# Altium footprint library Senior-Design-Custom.PcbLib: 58 footprints (part 2 of 4)
Each footprint in its own frame and in the unit in brackets; x right, y up, seen from the top. Pads: shape width x height; smd on the part's side, far side on the other; paste and mask are expansions set on the pad; w line width, h text height; cw(c..) or ccw(c..) is an arc to the next point about the centre after c.
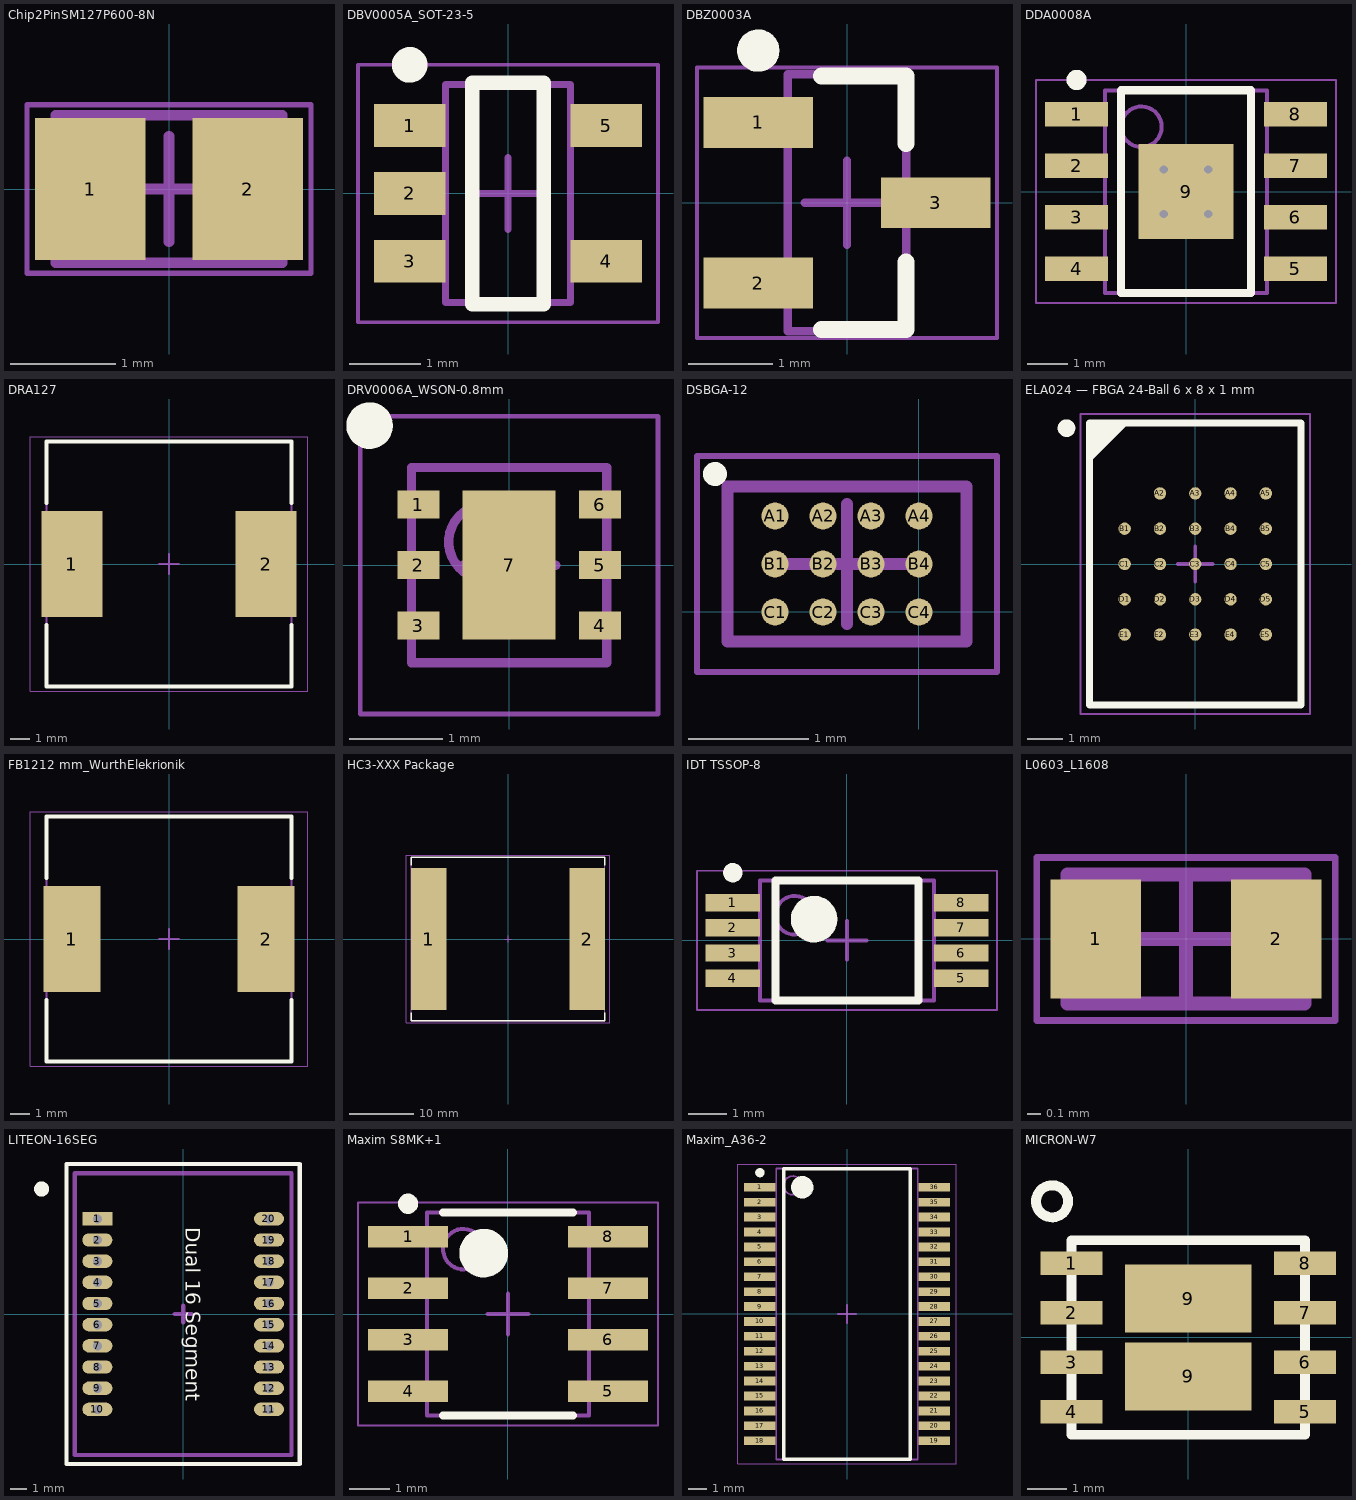
[diagram p1: the footprints below, top view; thin cyan lines are the x and y axes]

## Chip2PinSM127P600-8N [mm]
height 1.35
pads (2):
  rect 1.05x1.35 smd: 1(-0.75,0) 2(0.75,0)
Mechanical 13:
  lines w0.1: -1.075,-0.7 -1.075,0.7 1.075,0.7 1.075,-0.7 -1.075,-0.7
Mechanical 15:
  lines w0.05: -1.35,-0.8 -1.35,0.8 1.35,0.8 1.35,-0.8 -1.35,-0.8
  lines w0.1: -0.5,0 0.5,0 ; 0,-0.5 0,0.5
3D body "Chip2PinSM127P600-8N.step": height 1.35, standoff 0, extent -1.075,-0.7 1.075,0.7

## DBV0005A_SOT-23-5 [mm] "SOT23, 5-Leads, Body 2.90x2.80mm, Pitch 0.95mm, IPC Medium Density"
height 1.45
pads (5):
  rect 1x0.6 smd: 1(-1.375,0.95) 2(-1.375,0) 3(-1.375,-0.95) 4(1.375,-0.95) 5(1.375,0.95)
Top Overlay:
  circle w0.25: c-1.375,1.8 r0.125
  lines w0.2: -0.5,-1.55 -0.5,1.55 0.5,1.55 0.5,-1.55 -0.5,-1.55
Mechanical 13:
  lines w0.1: -0.875,-1.525 0.875,-1.525 0.875,1.525 -0.875,1.525 -0.875,-1.525
Mechanical 15:
  lines w0.05: -2.1,-1.8 2.1,-1.8 2.1,1.8 -2.1,1.8 -2.1,-1.8
  lines w0.1: -0.5,0 0.5,0 ; 0,-0.5 0,0.5
3D body: height 1.45, standoff 0, extent -0.875,-1.525 0.875,1.525

## DBZ0003A [mm] "Texas Instruments SOT-23 1.12mm max height 3 pin"
height 1.12
pads (3):
  rect 1.3x0.6 smd: 1(-1.05,0.95) 2(-1.05,-0.95) 3(1.05,0)
Top Overlay:
  circle w0.25: c-1.05,1.8 r0.125
  lines w0.2: -0.3,-1.5 0.7,-1.5 0.7,-0.7 ; -0.3,1.5 0.7,1.5 0.7,0.7
Mechanical 13:
  lines w0.1: -0.7,-1.52 -0.7,1.52 0.7,1.52 0.7,-1.52 -0.7,-1.52
Mechanical 15:
  lines w0.05: -1.775,-1.6 -1.775,1.6 1.775,1.6 1.775,-1.6 -1.775,-1.6
  lines w0.1: -0.5,0 0.5,0 ; 0,-0.5 0,0.5
3D body "DBZ0003A.step": height 1.12, standoff 0, extent -1.32,-1.52 1.32,1.52

## DDA0008A [mm] "Texas Instruments PowerPad SOIC-8 1.7mm max height"
height 1.7
pads (9):
  rect 1.55x0.6 smd: 1(-2.7,1.905) 2(-2.7,0.635) 3(-2.7,-0.635) 4(-2.7,-1.905) 5(2.7,-1.905) 6(2.7,-0.635) 7(2.7,0.635) 8(2.7,1.905)
  rect 2.34x2.34 smd: 9(0,0)
via -0.55,0.55 diameter 0.5 hole 0.2
via 0.55,0.55 diameter 0.5 hole 0.2
via -0.55,-0.55 diameter 0.5 hole 0.2
via 0.55,-0.55 diameter 0.5 hole 0.2
Top Overlay:
  circle w0.25: c-2.7,2.755 r0.125
  lines w0.2: -1.6,-2.5 -1.6,2.5 1.6,2.5 1.6,-2.5 -1.6,-2.5
Mechanical 13:
  circle w0.1: c-1.1,1.6 r0.5
  lines w0.1: -2,-2.5 -2,2.5 2,2.5 2,-2.5 -2,-2.5
Mechanical 15:
  lines w0.05: -3.7,-2.75 -3.7,2.75 3.7,2.75 3.7,-2.75 -3.7,-2.75
  lines w0.1: -0.5,0 0.5,0 ; 0,-0.5 0,0.5
3D body "DDA0008A.step": height 1.7, standoff 0, extent -3,-2.5 3,2.5

## DRA127 [mm] "DRA127 series inductors by coiltronics/eaton"
height 8
pads (2):
  rect 3.1x5.4 smd: 1(-4.95,0) 2(4.95,0)
Top Overlay:
  lines w0.2: -6.25,-3.1 -6.25,-6.25 6.25,-6.25 6.25,-3.1 ; -6.25,3.1 -6.25,6.25 6.25,6.25 6.25,3.1
Mechanical 13:
  lines w0.1: -6.25,-6.25 6.25,-6.25 6.25,6.25 -6.25,6.25 -6.25,-6.25
Mechanical 15:
  lines w0.05: -7.075,-6.5 7.075,-6.5 7.075,6.5 -7.075,6.5 -7.075,-6.5
  lines w0.1: -0.5,0 0.5,0 ; 0,-0.5 0,0.5
3D body: height 8, standoff 0, extent -6.25,-6.25 6.25,6.25

## DRV0006A_WSON-0.8mm [mm] "Texas Instruments WSON 0.8mm max height"
height 0.8
pads (7):
  rect 0.45x0.3 smd: 1(-0.975,0.65) 2(-0.975,0) 3(-0.975,-0.65) 4(0.975,-0.65) 5(0.975,0) 6(0.975,0.65)
  rect 1x1.6 smd: 7(0,0)
Top Overlay:
  circle w0.25: c-1.5,1.5 r0.125
Mechanical 13:
  circle w0.1: c-0.25,0.25 r0.4
  lines w0.1: -1.05,-1.05 -1.05,1.05 1.05,1.05 1.05,-1.05 -1.05,-1.05
Mechanical 15:
  lines w0.05: -1.6,-1.6 -1.6,1.6 1.6,1.6 1.6,-1.6 -1.6,-1.6
  lines w0.1: -0.5,0 0.5,0 ; 0,-0.5 0,0.5
3D body: height 0.8, standoff 0, extent -1.05,-1.05 1.05,1.05

## DSBGA-12 [mm] "BGA, 12-Leads, Body 1.99x1.29mmx0.63mm, Pitch 0.40mm"
height 0.63
pads (12):
  round 0.225 smd mask+0.05: A1(-1.2,0.8) A2(-0.8,0.8) A3(-0.4,0.8) A4(0,0.8) B1(-1.2,0.4) B2(-0.8,0.4) B3(-0.4,0.4) B4(0,0.4) C1(-1.2,0) C2(-0.8,0) C3(-0.4,0) C4(0,0)
Top Overlay:
  circle w0.1: c-1.7,1.15 r0.05
Mechanical 13:
  lines w0.1: -1.595,-0.245 0.395,-0.245 0.395,1.045 -1.595,1.045 -1.595,-0.245
Mechanical 15:
  lines w0.05: -1.85,-0.5 0.65,-0.5 0.65,1.3 -1.85,1.3 -1.85,-0.5
  lines w0.1: -1.1,0.4 -0.1,0.4 ; -0.6,-0.1 -0.6,0.9
3D body "DSBGA-12.step": height 0.63, standoff 0, extent -1.595,-0.245 0.395,1.045

## ELA024 — FBGA 24-Ball 6 x 8 x 1 mm [mm] "Cypress: BGA, 24-Leads, Body 6.00x8.00mmx1.00mm, Pitch 1.00mm"
height 1
pads (24):
  round 0.35 smd: A2(-1,2) A3(0,2) A4(1,2) A5(2,2) B1(-2,1) B2(-1,1) B3(0,1) B4(1,1) B5(2,1) C1(-2,0) C2(-1,0) C3(0,0) C4(1,0) C5(2,0) D1(-2,-1) D2(-1,-1) D3(0,-1) D4(1,-1) D5(2,-1) E1(-2,-2) E2(-1,-2) E3(0,-2) E4(1,-2) E5(2,-2)
Top Overlay:
  circle w0.25: c-3.65,3.85 r0.125
  region: -2,4 -3,3 -3,4
  lines w0.2: -3,3 -2,4 ; -3,-4 -3,4 3,4 3,-4 -3,-4
Mechanical 13:
  lines w0.1: -3,-4 -3,4 3,4 3,-4 -3,-4
Mechanical 15:
  lines w0.05: -3.25,-4.25 -3.25,4.25 3.25,4.25 3.25,-4.25 -3.25,-4.25
  lines w0.1: -0.5,0 0.5,0 ; 0,-0.5 0,0.5
3D body: height 1, standoff 0.2, extent -3,-4 3,4

## FB1212 mm_WurthElekrionik [mm] "High Power Ferrite Bead, 2-Leads, Body 12.00x12.00mm, IPC Medium Density"
height 8
pads (2):
  rect 2.9x5.4 smd: 1(-4.95,0) 2(4.95,0)
Top Overlay:
  lines w0.2: -6.25,-3.1 -6.25,-6.25 6.25,-6.25 6.25,-3.1 ; -6.25,3.1 -6.25,6.25 6.25,6.25 6.25,3.1
Mechanical 13:
  lines w0.1: -6.25,-6.25 6.25,-6.25 6.25,6.25 -6.25,6.25 -6.25,-6.25
Mechanical 15:
  lines w0.05: -7.075,-6.5 7.075,-6.5 7.075,6.5 -7.075,6.5 -7.075,-6.5
  lines w0.1: -0.5,0 0.5,0 ; 0,-0.5 0,0.5
3D body: height 11, standoff -4.4, extent 0,0 0,0
3D body "STEP-WE-PF-1280-rev1.stp": height 7.75, standoff -0.25, extent -6,-6 6,6

## HC3-XXX Package [mm] "Huge ass inductor package"
height 17.5
pads (2):
  rect 5.5x22 smd: 1(-12.25,0) 2(12.25,0)
Top Overlay:
  lines w0.2: -15,-11.4 -15,-12.7 15,-12.7 15,-11.4 ; -15,11.4 -15,12.7 15,12.7 15,11.4
Mechanical 13:
  lines w0.1: -15,-12.65 15,-12.65 15,12.65 -15,12.65 -15,-12.65
Mechanical 15:
  lines w0.05: -15.75,-12.95 15.75,-12.95 15.75,12.95 -15.75,12.95 -15.75,-12.95
  lines w0.1: -0.5,0 0.5,0 ; 0,-0.5 0,0.5
3D body "HC3-XXX Package.step": height 17.5, standoff 0, extent -15.22,-12.65 15.22,12.65

## IDT TSSOP-8 [mm] "TSOP, 8-Leads, Body 3.00x4.40mm, Pitch 0.65mm, IPC Medium Density"
height 1.2
pads (8):
  rect 1.4x0.45 smd: 1(-2.95,0.975) 2(-2.95,0.325) 3(-2.95,-0.325) 4(-2.95,-0.975) 5(2.95,-0.975) 6(2.95,-0.325) 7(2.95,0.325) 8(2.95,0.975)
Top Overlay:
  circle w0.25: c-2.95,1.75 r0.125
  circle w0.6: c-0.85,0.55 r0.3
  lines w0.2: -1.85,-1.55 -1.85,1.55 1.85,1.55 1.85,-1.55 -1.85,-1.55
Mechanical 13:
  circle w0.1: c-1.35,0.65 r0.5
  lines w0.1: -2.25,-1.55 -2.25,1.55 2.25,1.55 2.25,-1.55 -2.25,-1.55
Mechanical 15:
  lines w0.05: -3.875,-1.8 -3.875,1.8 3.875,1.8 3.875,-1.8 -3.875,-1.8
  lines w0.1: -0.5,0 0.5,0 ; 0,-0.5 0,0.5
3D body: height 1.2, standoff 0.05, extent -2.25,-1.55 2.25,1.55

## L0603_L1608 [mm]
height 0.95
pads (2):
  rect 0.67x0.88 smd: 1(-0.665,0) 2(0.665,0)
Mechanical 13:
  lines w0.1: -0.875,-0.475 0.875,-0.475 0.875,0.475 -0.875,0.475 -0.875,-0.475
Mechanical 15:
  lines w0.05: -1.1,-0.6 1.1,-0.6 1.1,0.6 -1.1,0.6 -1.1,-0.6
  lines w0.1: -0.475,0 0.475,0 ; 0,-0.475 0,0.475
3D body: height 0.95, standoff 0, extent 0.575,-0.475 0.875,0.475
3D body: height 0.95, standoff 0, extent -0.875,-0.475 -0.575,0.475
3D body: height 0.95, standoff 0, extent -0.575,-0.475 0.575,0.475

## LITEON-16SEG [mm]
pads (20):
  rect 1.8x0.8 hole 0.55: 1(-5.15,5.71)
  oval 1.8x0.8 hole 0.55: 2(-5.15,4.44) 3(-5.15,3.17) 4(-5.15,1.9) 5(-5.15,0.63) 6(-5.15,-0.64) 7(-5.15,-1.91) 8(-5.15,-3.18) 9(-5.15,-4.45) 10(-5.15,-5.72) 11(5.15,-5.72) 12(5.15,-4.45) 13(5.15,-3.18) 14(5.15,-1.91) 15(5.15,-0.64) 16(5.15,0.63) 17(5.15,1.9) 18(5.15,3.17) 19(5.15,4.44) 20(5.15,5.71)
Top Overlay:
  circle w0.5: c-8.5,7.5 r0.2
  lines w0.254: -7,-9 -7,9 7,9 7,8.5 7,-9 -7,-9
  text "Dual 16 Segment" at -0.15,5.21 h1.5
Mechanical 15:
  lines w0.254: -0.5,0 0.5,0 ; 0,-0.5 0,0.5 ; 6.495,8.445 -6.5,8.445 -6.5,-8.455 6.5,-8.455 6.5,8.44
3D body "LTP-3862G.stp": height 6.2, standoff -3.31, extent -6.5,-8.45 6.5,8.45

## Maxim S8MK+1 [mm] "SOIC, 8-Leads, Body 4.90x3.90mm, Pitch 1.27mm, IPC Medium Density"
height 1.75
pads (8):
  rect 1.98x0.53 smd: 1(-2.465,1.905) 2(-2.465,0.635) 3(-2.465,-0.635) 4(-2.465,-1.905) 5(2.465,-1.905) 6(2.465,-0.635) 7(2.465,0.635) 8(2.465,1.905)
Top Overlay:
  circle w0.25: c-2.465,2.72 r0.125
  circle w0.6: c-0.6,1.5 r0.3
  lines w0.2: -1.6,-2.5 1.6,-2.5 ; -1.6,2.5 1.6,2.5
Mechanical 13:
  circle w0.1: c-1.1,1.6 r0.5
  lines w0.1: -2,-2.5 -2,2.5 2,2.5 2,-2.5 -2,-2.5
Mechanical 15:
  lines w0.05: -3.7,-2.75 -3.7,2.75 3.7,2.75 3.7,-2.75 -3.7,-2.75
  lines w0.1: -0.5,0 0.5,0 ; 0,-0.5 0,0.5
3D body "Maxim S8MK+1.step": height 1.75, standoff 0, extent -3,-2.5 3,2.5

## Maxim_A36-2 [mm] "Maxim SSOP 36pin 0.8mm pitch"
height 2.64
pads (36):
  rect 1.7x0.47 smd: 1(-4.675,6.8) 2(-4.675,6) 3(-4.675,5.2) 4(-4.675,4.4) 5(-4.675,3.6) 6(-4.675,2.8) 7(-4.675,2) 8(-4.675,1.2) 9(-4.675,0.4) 10(-4.675,-0.4) 11(-4.675,-1.2) 12(-4.675,-2) 13(-4.675,-2.8) 14(-4.675,-3.6) 15(-4.675,-4.4) 16(-4.675,-5.2) 17(-4.675,-6) 18(-4.675,-6.8) 19(4.675,-6.8) 20(4.675,-6) 21(4.675,-5.2) 22(4.675,-4.4) 23(4.675,-3.6) 24(4.675,-2.8) 25(4.675,-2) 26(4.675,-1.2) 27(4.675,-0.4) 28(4.675,0.4) 29(4.675,1.2) 30(4.675,2) 31(4.675,2.8) 32(4.675,3.6) 33(4.675,4.4) 34(4.675,5.2) 35(4.675,6) 36(4.675,6.8)
Top Overlay:
  circle w0.25: c-4.675,7.585 r0.125
  circle w0.6: c-2.4,6.8 r0.3
  lines w0.2: -3.4,-7.8 -3.4,7.8 3.4,7.8 3.4,-7.8 -3.4,-7.8
Mechanical 13:
  circle w0.1: c-2.9,6.9 r0.5
  lines w0.1: -3.8,-7.8 -3.8,7.8 3.8,7.8 3.8,-7.8 -3.8,-7.8
Mechanical 15:
  lines w0.05: -5.875,-8.05 -5.875,8.05 5.875,8.05 5.875,-8.05 -5.875,-8.05
  lines w0.1: -0.5,0 0.5,0 ; 0,-0.5 0,0.5
3D body "Maxim A36-2.step": height 2.64, standoff 0, extent -5.152,-7.8 5.152,7.8

## MICRON-W7 [mm] "Micron W7 PDFN-8 Package"
height 8
pads (10):
  rect 1.6x0.6 smd: 1(-3,1.905) 2(-3,0.635) 3(-3,-0.635) 4(-3,-1.905) 5(3,-1.905) 6(3,-0.635) 7(3,0.635) 8(3,1.905)
  rect 3.25x1.75 smd: 9(0,-1) 9(0,1)
Top Overlay:
  circle w0.254: c-3.5,3.5 r0.412
  lines w0.254: -3,-2.5 -3,2.5 3,2.5 3,-2.5 -3,-2.5
3D body: height 0.8, standoff 0, extent -3,-2.5 3,2.5